# Altium footprint library K78xxM-1000R3 负输出.PcbLib: 1 footprints
Each footprint in its own frame and in the unit in brackets; x right, y up, seen from the top. Pads: shape width x height; smd on the part's side, far side on the other; paste and mask are expansions set on the pad; w line width, h text height; cw(c..) or ccw(c..) is an arc to the next point about the centre after c.
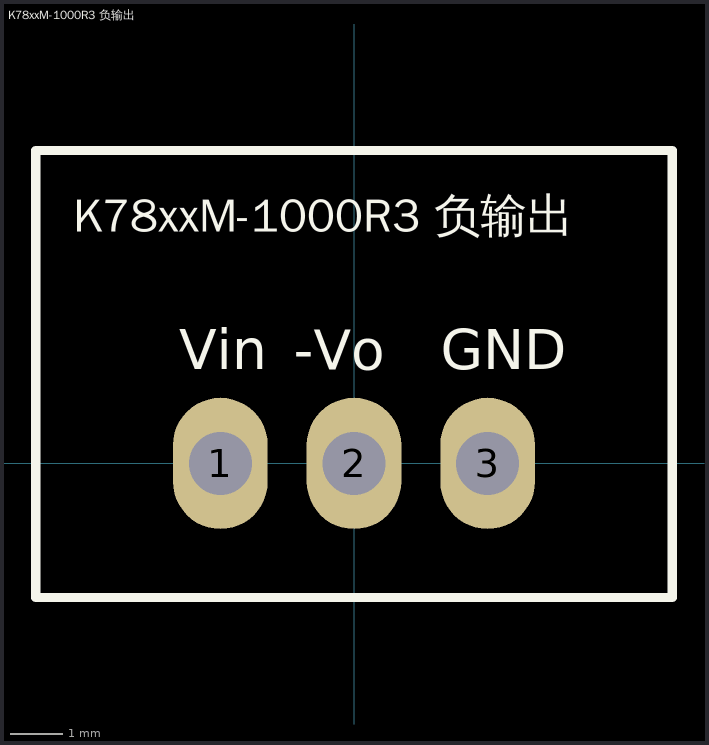
[diagram p0: the footprint, top view; thin cyan lines are the x and y axes]

## K78xxM-1000R3 负输出 [mm]
pads (3):
  oval 1.8x2.5 hole 1.2: 1(-2.54,0) 2(0,0) 3(2.54,0)
Top Overlay:
  lines w0.178: -6.05,-2.55 -6.05,5.95 6.05,5.95 6.05,-2.55 -6.05,-2.55
  text "GND" at 1.651,1.79 h0.76
  text "Vin" at -3.322,1.79 h0.76
  text "-Vo" at -1.143,1.778 h0.76
  text "K78xxM-1000R3 负输出" at -5.334,4.191 h1.1